# Altium integrated library connector.IntLib: 1 symbol
Pins are listed as number, name and electrical type; pins without a type are passive.

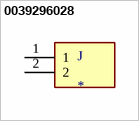
[diagram p0: symbol 0039296028]

## 0039296028
designator J
Connector Header Through Hole 2 position; MF: Molex; MP: 0039296028; Price: None; SnapEDA_Link: https://www.snapeda.com/parts/0039296028/Molex/view-part/2751623/?ref=snap; Package: None; Availability: Unavailable; Value: *
footprint MOLEX_0039296028
pins: 1, 2